# Altium schematic symbol library LED.Schlib: 1 symbol
Pins are listed as number, name and electrical type; pins without a type are passive.

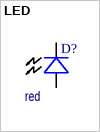
[diagram p0: symbol LED]

## LED
designator D?  value red  (hidden comment: LED)
Назначение: Светодиод; Наименование: SMD-LED; Потребление, Вт: 0,01
footprint LED-0805+circle
footprint LED-0805
footprint LED_0603
footprint LED_0402_BLUE
footprint LED_0402_GREEN
footprint LED_0402_RED
footprint GNL-3012
footprint GNL-5012
pins: 1 A, 2 K